# Altium footprint library 电池座.PcbLib: 4 footprints
Each footprint in its own frame and in the unit in brackets; x right, y up, seen from the top. Pads: shape width x height; smd on the part's side, far side on the other; paste and mask are expansions set on the pad; w line width, h text height; cw(c..) or ccw(c..) is an arc to the next point about the centre after c.
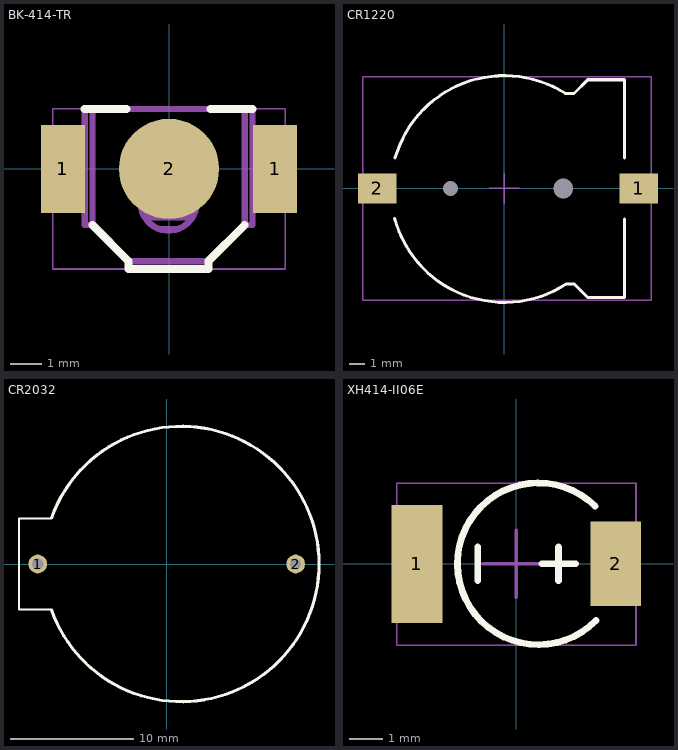
[diagram p0: the footprints below, top view; thin cyan lines are the x and y axes]

## BK-414-TR [mm] "XH414电池铁夹"
height 2.16
pads (3):
  rect 1.4x2.79 smd: 1(-3.365,0) 1(3.365,0)
  round 3.18 smd: 2(0,0)
Top Overlay:
  lines w0.254: -2.678,1.901 -1.345,1.901 ; -2.428,-1.779 -2.428,-1.784 -1.283,-2.929 -1.283,-3.179 1.257,-3.179 1.257,-2.929 1.257,-2.924 2.402,-1.779 ; 1.32,1.901 2.652,1.901
Mechanical 13:
  lines w0.05: -3.683,-3.175 3.687,-3.175 3.687,1.905 -3.683,1.905 -3.683,-3.175
Mechanical 15:
  lines w0.2: -2.678,-1.279 -3.448,-1.279 cw(c-3.448,-1.029) -3.698,-1.029 -3.698,1.011 cw(c-3.448,1.011) -3.448,1.261 -2.678,1.261 ; -2.428,1.901 -2.428,-1.779 ; -0.903,0.908 0.877,0.908 ; -0.842,-1.38 0.817,-1.38 ; -0.767,-1.534 0.741,-1.534 ; -0.302,-1.909 0.277,-1.909 ; 2.402,1.901 2.402,-1.779 ; 2.652,-1.279 3.422,-1.279 ccw(c3.422,-1.029) 3.672,-1.029 3.672,1.011 ccw(c3.422,1.011) 3.422,1.261 2.652,1.261 ; -2.428,-1.779 -1.283,-2.929 ; -2.428,-1.779 -2.678,-1.779 -2.678,1.901 2.652,1.901 2.652,-1.779 2.402,-1.779 ; -1.283,-2.929 1.257,-2.929 ; -1.283,-2.929 -1.283,-3.179 1.257,-3.179 1.257,-2.929 ; 1.257,-2.929 2.402,-1.779 ; -0.903,-1.069 ccw(c-0.013,-1.069) 0.877,-1.069 0.877,1.079 -0.903,1.079 -0.903,-1.069
3D body: height 2.21, standoff 0.04, extent -3.683,-3.175 3.687,1.905

## CR1220 [mm] "3V电池"
height 4
pads (4):
  rect 2.54x2 smd: 1(8.901,0) 2(-8.4,0)
  round 0.8 hole 1 unplated: Hole(-3.55,0)
  round 0.8 hole 1.3 unplated: Hole(3.9,0)
Top Overlay:
  lines w0.2: -7.244,-1.979 ccw(c0,-0.038) 4.113,-6.309 4.615,-6.309 5.519,-7.213 7.959,-7.213 7.959,-2.019 ; -7.209,2.03 cw(c0,-0.038) 4.035,6.284 ; 4.036,6.284 4.615,6.284 5.519,7.187 7.959,7.187 ; 7.959,2.019 7.959,7.162
Mechanical 13:
  lines w0.1: -9.34,-7.395 9.728,-7.395 9.728,7.395 -9.34,7.395 -9.34,-7.395
Mechanical 15:
  lines w0.1: -0.991,0 1,0 ; 0,-1 0,1
3D body: height 4.2, standoff -0.8, extent -9.356,-7.395 9.712,7.395

## CR2032 [mil] "2032锂电池"
height 196.85
pads (2):
  round 60 hole 35.43: 1(-412.89,0) 2(412.89,0)
Top Overlay:
  lines w7.87: -369.59,145.67 -472.93,145.67 -472.93,0 -472.93,-145.67 -368.6,-145.67
  lines w10: -369.03,146.83 cw(c46.75,0) -368.9,-147.19

## XH414-II06E [mm] "备用电池"
height 1.5
pads (2):
  rect 1.5x3.5 smd: 1(-2.95,0)
  rect 1.5x2.5 smd: 2(2.95,0)
Top Overlay:
  lines w0.2: -1.15,-0.5 -1.15,0.5 ; 0.75,0 1.75,0 ; 1.25,-0.5 1.25,0.5 ; 2.334,1.71 ccw(c0.65,0) 2.36,-1.684
Mechanical 13:
  lines w0.05: -3.55,-2.413 3.55,-2.413 3.55,2.387 -3.55,2.387 -3.55,-2.413
Mechanical 15:
  lines w0.1: -1,0 1,0 ; 0,-1 0,1
3D body: height 1.72, standoff 0, extent -3.55,-2.413 3.55,2.387